# Altium integrated library CyberDeck.IntLib: 17 symbols
Pins are listed as number, name and electrical type; pins without a type are passive.

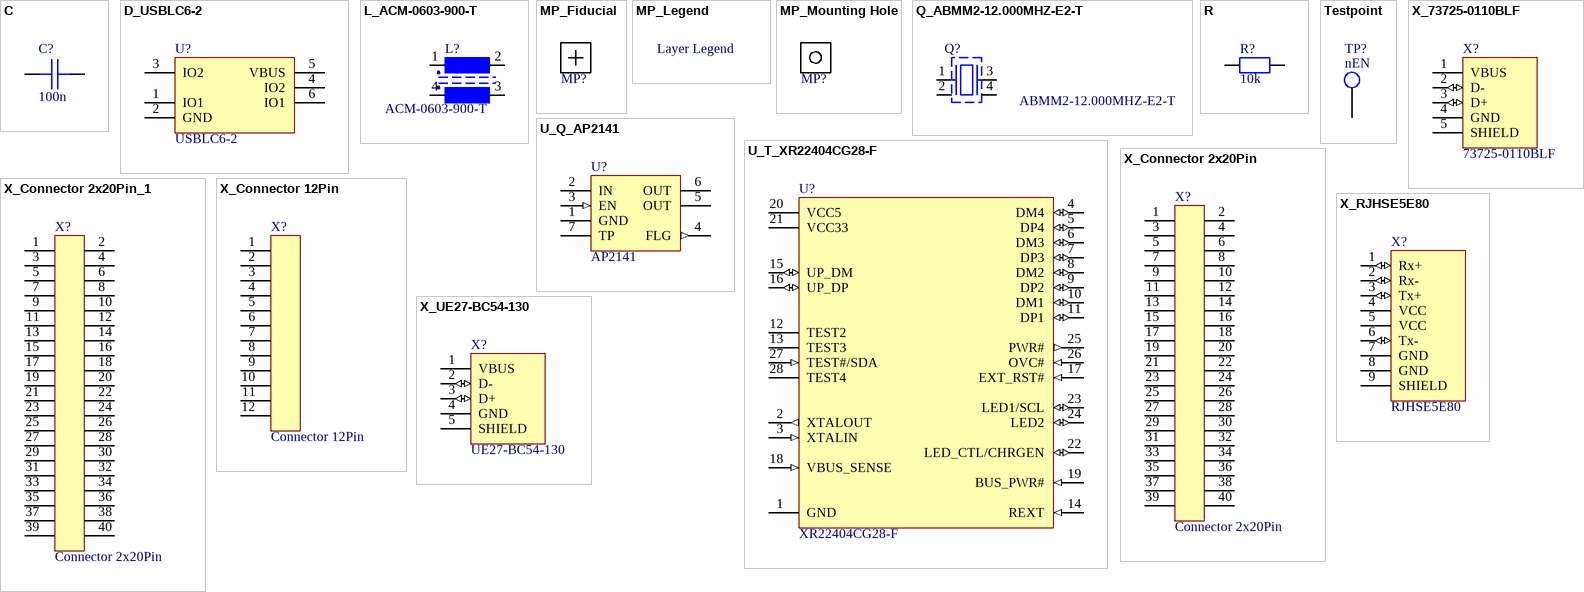
[diagram p0: symbols C to X_UE27-BC54-130]

## C
designator C?, comment 100n
Chip capacitor, generic
footprint 0402_C
footprint 0603_C
footprint 0805_C_E0
footprint 1206_C_FC
footprint 1210_C_GD
footprint 1812_C_JC
pins: 1, 2

## D_USBLC6-2
designator U?, comment USBLC6-2
TVS DIODE 5.25VWM 17VC SOT666; Manufacturer: STMicroelectronics; Manufacturer Part Number: USBLC6-2P6; Supplier 1: Digi-Key; Supplier Part Number 1: 497-5026-1-ND; ComponentLink1URL: https://datasheet.ciiva.com/15143/getdatasheetpartid-98673-15143462.pdf; ComponentLink1Description: https://datasheet.ciiva.com/15143/getdatasheetpartid-98673-15143462.pdf; ComponentLink2URL: https://datasheet.ciiva.com/14186/usblc6-2-st-eng-tds-14186568.pdf; ComponentLink2Description: https://datasheet.ciiva.com/14186/usblc6-2-st-eng-tds-14186568.pdf; ComponentLink3URL: https://datasheet.ciiva.com/22692/1690354-22692453.pdf; ComponentLink3Description: https://datasheet.ciiva.com/22692/1690354-22692453.pdf; ComponentLink4URL: https://datasheet.ciiva.com/22685/1690354-22685832.pdf; ComponentLink4Description: https://datasheet.ciiva.com/22685/1690354-22685832.pdf; ComponentLink5URL: https://datasheet.ciiva.com/16378/cd00050750-16378714.pdf; ComponentLink5Description: https://datasheet.ciiva.com/16378/cd00050750-16378714.pdf; ComponentLink6URL: https://datasheet.ciiva.com/4508/cd00050750-4508892.pdf; ComponentLink6Description: https://datasheet.ciiva.com/4508/cd00050750-4508892.pdf; ComponentLink7URL: https://datasheet.ciiva.com/41444/001184108-da-01-en-ic-esd-protection-usblc6-2p6-sot-666-stm-41444134.pdf; ComponentLink7Description: https://datasheet.ciiva.com/41444/001184108-da-01-en-ic-esd-protection-usblc6-2p6-sot-666-stm-41444134.pdf; Case/Package: SOT-666
footprint SOT-666 (SOTFL, 6-Leads, Body 1.60x1.60mm, Pitch 0.50mm, IPC Medium Density)
pins: 1 IO1, 2 GND, 3 IO2, 4 IO2, 5 VBUS, 6 IO1

## L_ACM-0603-900-T
designator L?, comment ACM-0603-900-T
INDUCTOR COMMON MODE SMD; Manufacturer: Abracon; Max Output Current: 200mA; Number of Inputs: 1; Supplier 1: Digi-Key; Supplier Part Number 1: 535-12407-1-ND; Manufacturer Part Number: ACM-0603-900-T; Case/Package: 0603; ComponentLink1URL: https://datasheet.ciiva.com/29370/acm-0603-29370512.pdf; ComponentLink1Description: https://datasheet.ciiva.com/29370/acm-0603-29370512.pdf; ComponentLink2Description: http://www.mouser.com/ds/2/115/AP21410_21510-740863.pdf; ComponentLink2URL: http://www.mouser.com/ds/2/115/AP21410_21510-740863.pdf; ComponentLink3Description: http://www.diodes.com/_files/datasheets/AP21410_21510.pdf; ComponentLink3URL: http://www.diodes.com/_files/datasheets/AP21410_21510.pdf; Contact Plating: Tin,Matte; Max Operating Temperature: 85°C; Min Operating Temperature: -40°C; Mount: Surface Mount; Number of Outputs: 1; Pricing 2: 1=0.41, 10=0.351, 100=0.2624, 500=0.2062, 1000=0.15934 (USD); Stock 2: 2006; Supplier 2: Digi-Key; Supplier Part Number 2: AP21410FM-7DICT-ND
footprint ACM-0603-900-T
pins: 1, 2, 3, 4

## MP_Fiducial
designator MP?, comment Fiducial  (value not drawn)  (no BOM)
footprint REF1
footprint REF1 - small
footprint REF2
footprint REF2 - small
footprint REF3
footprint REF3 - small
footprint REF - smaller

## MP_Legend
designator 1?  (value not drawn)
Layer legend
footprint Layerlegend
footprint PCB LEGEND (Layerlegend)
text: Layer Legend

## MP_Mounting Hole
designator MP?, comment Mounting Hole  (value not drawn)  (no BOM)
Different Mounting holes
footprint M3x08S - Erdung
footprint M25x05S
footprint M3x08S
footprint 9774080482 (WA-SMSI SMT Steel Spacer, M4)
footprint M2 2.3

## Q_ABMM2-12.000MHZ-E2-T
designator Q?, comment ABMM2-12.000MHZ-E2-T
12MHz ±20ppm Crystal 18pF 50 Ohm -20°C ~ 70°C  Surface Mount 4-SMD, No Lead (DFN, LCC); Manufacturer: Abracon; Supplier 1: Digi-Key; Supplier Part Number 1: 535-9631-1-ND; Manufacturer Part Number: ABMM2-12.000MHZ-E2-T; Case/Package: CSMD; ComponentLink1URL: https://datasheet.ciiva.com/15116/getdatasheetpartid-719825-15116727.pdf; ComponentLink1Description: https://datasheet.ciiva.com/15116/getdatasheetpartid-719825-15116727.pdf; ComponentLink2URL: https://datasheet.ciiva.com/855/abmm2-855417.pdf; ComponentLink2Description: https://datasheet.ciiva.com/855/abmm2-855417.pdf; ComponentLink3URL: https://datasheet.ciiva.com/3176/abmm2-3176137.pdf; ComponentLink3Description: https://datasheet.ciiva.com/3176/abmm2-3176137.pdf; ComponentLink4URL: https://datasheet.ciiva.com/855/abmm2-855418.pdf; ComponentLink4Description: https://datasheet.ciiva.com/855/abmm2-855418.pdf; ComponentLink5URL: https://datasheet.ciiva.com/855/abmm2-855419.pdf; ComponentLink5Description: https://datasheet.ciiva.com/855/abmm2-855419.pdf; ComponentLink6URL: https://datasheet.ciiva.com/16214/abmm2-16214428.pdf; ComponentLink6Description: https://datasheet.ciiva.com/16214/abmm2-16214428.pdf
footprint ABMM2
pins: 1, 2, 3, 4 3

## R
designator R?, comment 10k
Resistor, generic
footprint 0402_R
footprint 0603_R
footprint 0805_R
footprint 1206_R
footprint 1210_R
footprint 1218_R
footprint 2010_R
footprint 2512_R
footprint 0201_R (Chip Resistor, 2-Leads, Body 0.60x0.30mm, IPC Medium Density)
footprint 01005_R (Chip Resistor, 2-Leads, Body 0.40x0.20mm, IPC Medium Density)
footprint 10.61mm_tht_r
footprint 10mm_tht_r
pins: 1, 2

## Testpoint
designator TP?, comment nEN  (no BOM)
Testpoint
footprint Testpoint_50mil (Testpoint)
footprint Pin Header 1x1 TH Pitch 2.54mm TP (PinHeader 1x1 TH Pitch 2.54mm)
footprint 1040
footprint 1002m (Vogt 1002m)
pins: 1

## U_Q_AP2141
designator U?, comment AP2141
USB Power SW High Side Single 5.5V 0.8A 6-Pin DFN EP T/R; Manufacturer: Diodes; Manufacturer Part Number: AP2141FMG-7; Supplier 1: Digi-Key; Supplier Part Number 1: AP2141FMG-7DICT-ND; ComponentLink1URL: https://datasheet.ciiva.com/15108/getdatasheetpartid-661768-15108858.pdf; ComponentLink1Description: https://datasheet.ciiva.com/15108/getdatasheetpartid-661768-15108858.pdf; ComponentLink2URL: https://datasheet.ciiva.com/26882/ap2141fmg-7-26882490.pdf; ComponentLink2Description: https://datasheet.ciiva.com/26882/ap2141fmg-7-26882490.pdf; ComponentLink3URL: https://datasheet.ciiva.com/1962/ap2141-51-1962188.pdf; ComponentLink3Description: https://datasheet.ciiva.com/1962/ap2141-51-1962188.pdf; ComponentLink4URL: https://datasheet.ciiva.com/1962/ap2141-51-1962189.pdf; ComponentLink4Description: https://datasheet.ciiva.com/1962/ap2141-51-1962189.pdf; ComponentLink5URL: https://datasheet.ciiva.com/1962/ap2141-51-1962190.pdf; ComponentLink5Description: https://datasheet.ciiva.com/1962/ap2141-51-1962190.pdf
footprint U-DFN2018-6
pins: 1 GND (power), 2 IN (power), 3 EN (in), 4 FLG (out), 5 OUT (power), 6 OUT (power), 7 TP (power)

## U_T_XR22404CG28-F
designator U?, comment XR22404CG28-F
USB Controller USB 2.0 USB Interface; Manufacturer: Exar; Supplier 1: Digi-Key; Supplier Part Number 1: 1016-2163-ND; Manufacturer Part Number: XR22404CG28-F; ComponentLink1Description: Datasheet; ComponentLink1URL: https://www.exar.com/ds/xr22404.pdf
footprint SSOP-28 (SOP, 28-Leads, Body 9.91x3.90mm, Pitch 0.64mm, IPC Medium Density)
pins: 1 GND (power), 2 XTALOUT (out), 3 XTALIN (in), 4 DM4 (io), 5 DP4 (io), 6 DM3 (io), 7 DP3 (io), 8 DM2 (io), 9 DP2 (io), 10 DM1 (io), 11 DP1 (io), 12 TEST2, 13 TEST3, 14 REXT (in), 15 UP_DM (io), 16 UP_DP (io), 17 EXT_RST# (in), 18 VBUS_SENSE (in), 19 BUS_PWR# (in), 20 VCC5 (power), 21 VCC33 (power), 22 LED_CTL/CHRGEN (io), 23 LED1/SCL (io), 24 LED2 (io), 25 PWR# (out), 26 OVC# (in), 27 TEST#/SDA (in), 28 TEST4

## X_73725-0110BLF
designator X?, comment 73725-0110BLF
CONN RCPT USB2.0 TYPEA 4POS R/A
footprint 73725-0110BLF
pins: 1 VBUS (power), 2 D- (io), 3 D+ (io), 4 GND (power), 5 SHIELD (power)

## X_Connector 2x20Pin
designator X?, comment Connector 2x20Pin
Generic connector 2x20 Pin
footprint Pin Header 2x20 TH Pitch 2.54mm F (PinHeader 2x20 TH Pitch 2.54mm Female)
footprint Pin Header 2x20 TH Pitch 2.54mm (PinHeader 2x20 TH Pitch 2.54mm)
footprint Pin Header 2x20 TH Pitch 2.54mm - sh (PinHeader 2x20 TH Pitch 2.54mm)
pins: 1, 2, 3, 4, 5, 6, 7, 8, 9, 10, 11, 12, 13, 14, 15, 16, 17, 18, 19, 20, 21, 22, 23, 24, 25, 26, 27, 28, 29, 30, 31, 32, 33, 34, 35, 36, 37, 38, 39, 40

## X_Connector 2x20Pin_1
designator X?, comment Connector 2x20Pin
Generic connector 2x20 Pin
footprint Pin Header 2x20 TH Pitch 2.54mm F (PinHeader 2x20 TH Pitch 2.54mm Female)
footprint Pin Header 2x20 TH Pitch 2.54mm (PinHeader 2x20 TH Pitch 2.54mm)
footprint Pin Header 2x20 SMD Pitch 2.54mm F (PinHeader 2x20 SMD Pitch 2.54mm female)
pins: 1, 2, 3, 4, 5, 6, 7, 8, 9, 10, 11, 12, 13, 14, 15, 16, 17, 18, 19, 20, 21, 22, 23, 24, 25, 26, 27, 28, 29, 30, 31, 32, 33, 34, 35, 36, 37, 38, 39, 40

## X_Connector 12Pin
designator X?, comment Connector 12Pin
Generic connector 12 Pin
footprint Pin Header 1x12 TH Pitch 2.54mm (PinHeader 1x12 TH Pitch 2.54mm)
footprint Pin Header 1x12 TH Pitch 2.54mm f (PinHeader 1x12 TH Pitch 2.54mm female)
pins: 1, 2, 3, 4, 5, 6, 7, 8, 9, 10, 11, 12

## X_RJHSE5E80
designator X?, comment RJHSE5E80
Modular Connectors / Ethernet Connectors High Speed RJ w/no LED's or Shield; Manufacturer 1: Amphenol Commercial; Voltage Rating: 125V; Manufacturer Part Number 1: RJHSE5E80; Termination: Solder; ComponentLink1URL: http://www.mouser.com/ds/2/18/Amphenol_RJHSE_BRO-311217.pdf; ComponentLink1Description: http://www.mouser.com/ds/2/18/Amphenol_RJHSE_BRO-311217.pdf; ComponentLink2URL: https://www.amphenolcanada.com/ProductSearch/pdf/RJHSE_BRO.pdf; ComponentLink2Description: https://www.amphenolcanada.com/ProductSearch/pdf/RJHSE_BRO.pdf; Supplier 1: Digi-Key; Supplier Part Number 1: RJHSE5E80-ND; ComponentLink3URL: https://datasheet.ciiva.com/16408/eng-cd-6368150-b1-16408714.pdf; ComponentLink3Description: https://datasheet.ciiva.com/16408/eng-cd-6368150-b1-16408714.pdf; ComponentLink4URL: https://datasheet.ciiva.com/30494/0900766b8121d3d0-30494389.pdf; ComponentLink4Description: https://datasheet.ciiva.com/30494/0900766b8121d3d0-30494389.pdf; ComponentLink5URL: https://datasheet.ciiva.com/30086/63681501-30086239.pdf; ComponentLink5Description: https://datasheet.ciiva.com/30086/63681501-30086239.pdf; ComponentLink7URL: https://datasheet.ciiva.com/685/eng-cd-6368150-c1-685799.pdf; ComponentLink7Description: https://datasheet.ciiva.com/685/eng-cd-6368150-c1-685799.pdf
footprint RJ45 (generic RJ45 footprint w/o LEDs)
pins: 1 Rx+ (io), 2 Rx- (io), 3 Tx+ (io), 4 VCC (power), 5 VCC (power), 6 Tx- (io), 7 GND (power), 8 GND (power), 9 SHIELD (power)

## X_UE27-BC54-130
designator X?, comment UE27-BC54-130
USB Connectors 4P PCB R/A TYPE B BLACK W/ REAR SHIELD; Manufacturer 1: Amphenol Commercial; Manufacturer Part Number 1: UE27-BC54-130; ComponentLink1URL: https://datasheet.ciiva.com/10945/ue27bcx4xxx-10945210.pdf; ComponentLink1Description: https://datasheet.ciiva.com/10945/ue27bcx4xxx-10945210.pdf; ComponentLink2URL: https://datasheet.ciiva.com/851/ue27bcx4xxx-851809.pdf; ComponentLink2Description: https://datasheet.ciiva.com/851/ue27bcx4xxx-851809.pdf; ComponentLink3URL: https://datasheet.ciiva.com/16668/ue27bcx4xxx-16668218.pdf; ComponentLink3Description: https://datasheet.ciiva.com/16668/ue27bcx4xxx-16668218.pdf; Supplier 1: Digi-Key; Supplier Part Number 1: UE27BC54130-ND
footprint UE27BC54130 (USB RCPT GOLD TYPE B R/A)
pins: 1 VBUS (power), 2 D- (io), 3 D+ (io), 4 GND (power), 5 SHIELD (power)